# Altium schematic symbol library DAC63204RTET.SchLib: 1 symbol
Pins are listed as number, name and electrical type; pins without a type are passive.

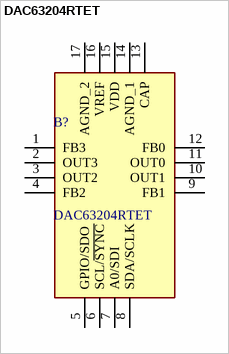
[diagram p0: symbol DAC63204RTET]

## DAC63204RTET
designator B?
Digital to Analog Converters - DAC 12-bit 4-channel voltage/current output smart DAC with Hi-Z, EEPROM and waveform generator 16-WQFN -40 to 125; Manufacturer_Name: Texas Instruments; Geometry.Height: 0.8mm; Mouser Part Number: 595-DAC63204RTET; Mouser Price/Stock: https://www.mouser.co.uk/ProductDetail/Texas-Instruments/DAC63204RTET?qs=doiCPypUmgHmvquVIBKsEw%3D%3D; Manufacturer_Part_Number: DAC63204RTET; Datasheet Link: https://www.ti.com/lit/ds/symlink/dac63204.pdf
footprint QFN50P300X300X80-17N-D
pins: 1 FB3, 2 OUT3, 3 OUT2, 4 FB2, 5 GPIO/SDO, 6 SCL/~{SYNC}, 7 A0/SDI, 8 SDA/SCLK, 9 FB1, 10 OUT1, 11 OUT0, 12 FB0, 13 CAP, 14 AGND_1, 15 VDD, 16 VREF, 17 AGND_2